# Altium integrated library Cap-0.1uF.IntLib: 1 symbol
Pins are listed as number, name and electrical type; pins without a type are passive.

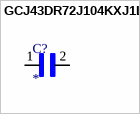
[diagram p0: symbol GCJ43DR72J104KXJ1L]

## GCJ43DR72J104KXJ1L
designator C?
Cap Ceramic 0.1uF 630V X7R 10% Pad SMD 1812 Soft Termination 125C Automotive T/R; MP: GCJ43DR72J104KXJ1L; Package: None; Price: None; Value: *; Availability: Unavailable
footprint CAPC4532X200N
pins: 1, 2